# Altium footprint library transformator.PcbLib: 34 footprints (part 3 of 3)
Each footprint in its own frame and in the unit in brackets; x right, y up, seen from the top. Pads: shape width x height; smd on the part's side, far side on the other; paste and mask are expansions set on the pad; w line width, h text height; cw(c..) or ccw(c..) is an arc to the next point about the centre after c.
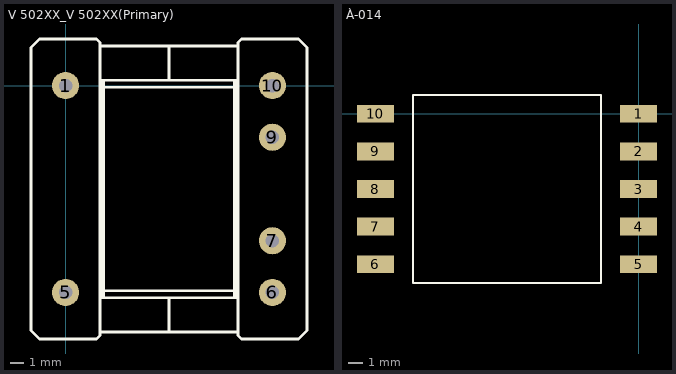
[diagram p2: the footprints below, top view; thin cyan lines are the x and y axes]

## V 502XX_V 502XX(Primary) [mm]
pads (6):
  round 2 hole 1: 1(0,0) 5(0,-15.24) 6(15.24,-15.24) 7(15.24,-11.43) 9(15.24,-3.81) 10(15.24,0)
Top Overlay:
  lines w0.2: 2.54,-18.161 12.7,-18.161 ; 2.54,-15.621 12.7,-15.621 ; 2.54,0.381 12.7,0.381 ; 2.54,2.921 12.7,2.921 ; 2.667,-15.621 2.667,0.381 ; 2.794,-15.621 2.794,0.381 ; 2.794,-15.113 12.446,-15.113 ; 2.794,-0.127 12.446,-0.127 ; 7.62,-18.161 7.62,-15.621 ; 7.62,0.381 7.62,2.921 ; 12.446,-15.621 12.446,0.381 ; 12.573,-15.621 12.573,0.381 ; -2.54,-18.034 -2.54,2.794 -1.905,3.429 2.286,3.429 2.54,3.175 2.54,-18.415 2.286,-18.669 -1.905,-18.669 -2.54,-18.034 ; 12.7,-18.415 12.7,3.175 12.954,3.429 17.145,3.429 17.78,2.794 17.78,-18.034 17.145,-18.669 12.954,-18.669 12.7,-18.415

## À-014 [mm]
pads (10):
  rect 2.5x1.2 smd: 1(0,0) 2(0,-2.54) 3(0,-5.08) 4(0,-7.62) 5(0,-10.16) 6(-17.78,-10.16) 7(-17.78,-7.62) 8(-17.78,-5.08) 9(-17.78,-2.54) 10(-17.78,0)
Top Overlay:
  lines w0.15: -15.24,-11.43 -15.24,1.27 -2.54,1.27 -2.54,-11.43 -15.24,-11.43